# Altium schematic symbol library B772.SchLib: 1 symbol
Pins are listed as number, name and electrical type; pins without a type are passive.

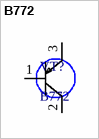
[diagram p0: symbol B772]

## B772
designator VT?
footprint PCBComponent_1
pins: 1 B, 2 C, 3 E